# Altium footprint library Diodes.PcbLib: 9 footprints
Each footprint in its own frame and in the unit in brackets; x right, y up, seen from the top. Pads: shape width x height; smd on the part's side, far side on the other; paste and mask are expansions set on the pad; w line width, h text height; cw(c..) or ccw(c..) is an arc to the next point about the centre after c.
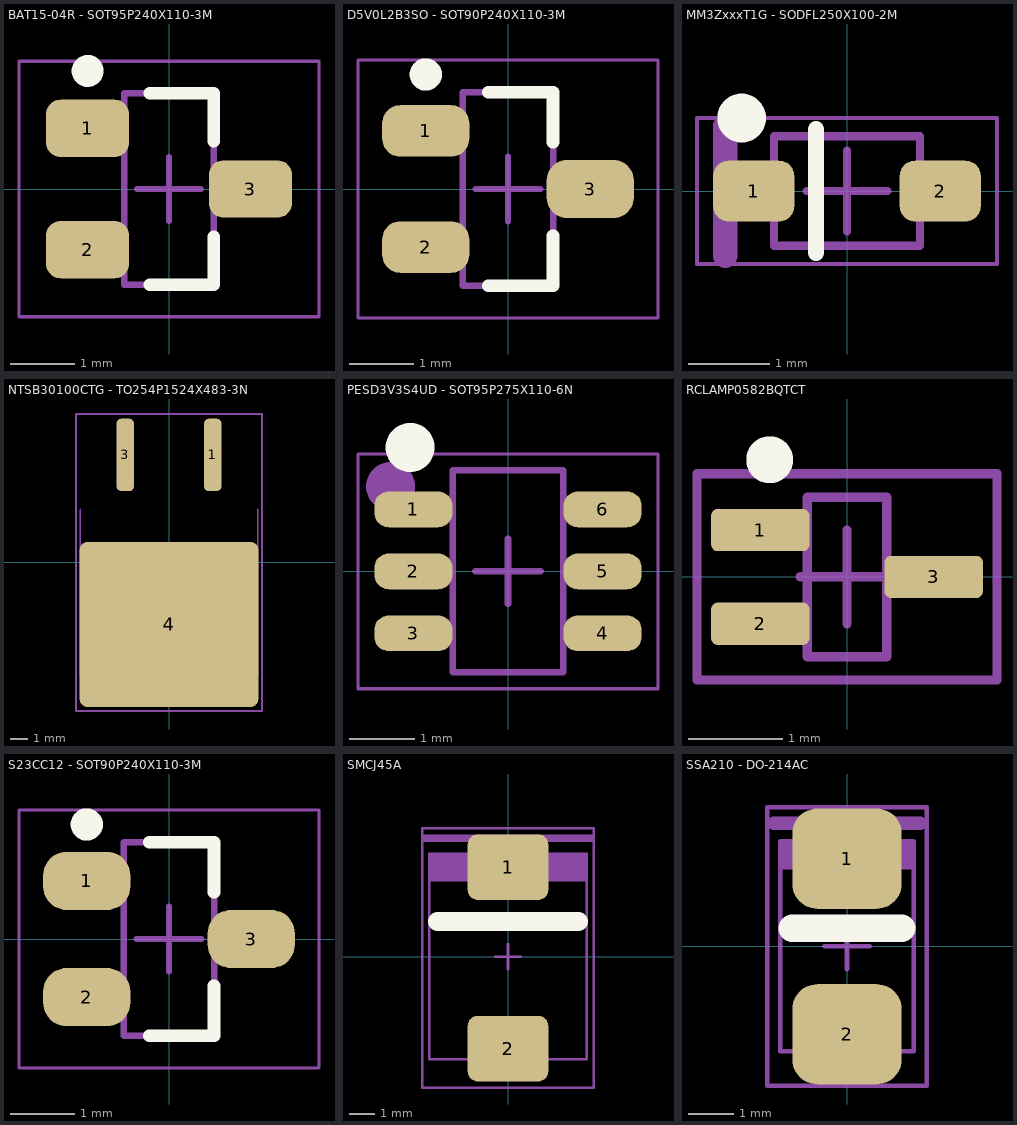
[diagram p0: the footprints below, top view; thin cyan lines are the x and y axes]

## BAT15-04R - SOT95P240X110-3M [mm] "SOT23, 3-Leads, Body 2.90x2.40mm, Pitch 0.95mm, IPC Low Density"
height 1.1
pads (3):
  rrect50% 1.3x0.9 smd paste-0.03: 1(-1.275,0.95) 2(-1.275,-0.95) 3(1.275,0)
Top Overlay:
  circle w0.25: c-1.275,1.85 r0.125
  lines w0.2: -0.3,-1.5 0.7,-1.5 0.7,-0.75 ; -0.3,1.5 0.7,1.5 0.7,0.75
Mechanical 13:
  lines w0.1: -0.7,-1.5 0.7,-1.5 0.7,1.5 -0.7,1.5 -0.7,-1.5
Mechanical 15:
  lines w0.05: -2.35,-2 2.35,-2 2.35,2 -2.35,2 -2.35,-2
  lines w0.1: -0.5,0 0.5,0 ; 0,-0.5 0,0.5
3D body: height 1.1, standoff 0.1, extent -0.7,-1.5 0.7,1.5

## D5V0L2B3SO - SOT90P240X110-3M [mm] "SOT23, 3-Leads, Body 2.90x2.40mm, Pitch 0.90mm, IPC Low Density"
height 1.1
pads (3):
  rrect70% 1.35x0.8 smd paste-0.05: 1(-1.275,0.9) 2(-1.275,-0.9)
  rrect70% 1.35x0.9 smd paste-0.05: 3(1.275,0)
Top Overlay:
  circle w0.25: c-1.275,1.775 r0.125
  lines w0.2: -0.3,-1.5 0.7,-1.5 0.7,-0.725 ; -0.3,1.5 0.7,1.5 0.7,0.725
Mechanical 13:
  lines w0.1: -0.7,-1.5 0.7,-1.5 0.7,1.5 -0.7,1.5 -0.7,-1.5
Mechanical 15:
  lines w0.05: -2.325,-2 2.325,-2 2.325,2 -2.325,2 -2.325,-2
  lines w0.1: -0.5,0 0.5,0 ; 0,-0.5 0,0.5
3D body: height 1.1, standoff 0.01, extent -0.7,-1.5 0.7,1.5

## MM3ZxxxT1G - SODFL250X100-2M [mm] "SODFL, 2-Leads, Body 1.25x2.50mm, IPC Low Density"
height 1
pads (2):
  rrect50% 1x0.75 smd paste-0.025: 1(-1.15,0) 2(1.15,0)
Top Overlay:
  circle w0.5: c-1.3,0.9 r0.05
  lines w0.2: -0.381,-0.762 -0.381,0.762
Mechanical 13:
  lines w0.1: -0.9,-0.675 0.9,-0.675 0.9,0.675 -0.9,0.675 -0.9,-0.675
Mechanical 15:
  lines w0.05: -1.85,-0.9 1.85,-0.9 1.85,0.9 -1.85,0.9 -1.85,-0.9
  lines w0.1: -0.5,0 0.5,0 ; 0,-0.5 0,0.5
Assembly:
  lines w0.05: -1.85,-0.9 -1.85,0.9 1.85,0.9 1.85,-0.9 -1.85,-0.9
  lines w0.3: -1.5,-0.8 -1.5,0.8
  text ".Designator" at -1.3,-0.2 h0.9
3D body: height 1, standoff 0, extent -0.9,-0.675 0.9,0.675

## NTSB30100CTG - TO254P1524X483-3N [mm] "D2-PAK, 3-Pads, Body 9.6x10.3mm (max), IPC Medium Density"
height 4.83
pads (3):
  rrect50% 1x4.2 smd paste-0.03: 1(2.54,6.25) 3(-2.54,6.25)
  rrect10% 10.4x9.6 smd paste-99: 4(0,-3.6)
Top Paste:
  region: 1.65,-6.85 1.65,-8.05 2.85,-8.05 2.85,-6.85
  region: 0.15,-6.85 0.15,-8.05 1.35,-8.05 1.35,-6.85
  region: -1.35,-6.85 -1.35,-8.05 -0.15,-8.05 -0.15,-6.85
  region: -2.85,-6.85 -2.85,-8.05 -1.65,-8.05 -1.65,-6.85
  region: 1.65,-3.85 1.65,-5.05 2.85,-5.05 2.85,-3.85
  region: -2.85,-3.85 -2.85,-5.05 -1.65,-5.05 -1.65,-3.85
  region: 1.65,-0.85 1.65,-2.05 2.85,-2.05 2.85,-0.85
  region: -2.85,-0.85 -2.85,-2.05 -1.65,-2.05 -1.65,-0.85
  region: -1.35,-0.85 -1.35,-2.05 -0.15,-2.05 -0.15,-0.85
  region: 0.15,-0.85 0.15,-2.05 1.35,-2.05 1.35,-0.85
  region: 3.15,0.65 3.15,-0.55 4.35,-0.55 4.35,0.65
  region: 3.15,-0.85 3.15,-2.05 4.35,-2.05 4.35,-0.85
  region: 3.15,-2.35 3.15,-3.55 4.35,-3.55 4.35,-2.35
  region: 3.15,-3.85 3.15,-5.05 4.35,-5.05 4.35,-3.85
  region: 3.15,-5.35 3.15,-6.55 4.35,-6.55 4.35,-5.35
  region: 0.15,0.65 0.15,-0.55 1.35,-0.55 1.35,0.65
  region: 0.15,-2.35 0.15,-3.55 1.35,-3.55 1.35,-2.35
  region: 0.15,-3.85 0.15,-5.05 1.35,-5.05 1.35,-3.85
  region: 0.15,-5.35 0.15,-6.55 1.35,-6.55 1.35,-5.35
  region: 1.65,0.65 1.65,-0.55 2.85,-0.55 2.85,0.65
  region: 1.65,-2.35 1.65,-3.55 2.85,-3.55 2.85,-2.35
  region: 1.65,-5.35 1.65,-6.55 2.85,-6.55 2.85,-5.35
  region: -2.85,0.65 -2.85,-0.55 -1.65,-0.55 -1.65,0.65
  region: -2.85,-2.35 -2.85,-3.55 -1.65,-3.55 -1.65,-2.35
  region: -2.85,-5.35 -2.85,-6.55 -1.65,-6.55 -1.65,-5.35
  region: -1.35,0.65 -1.35,-0.55 -0.15,-0.55 -0.15,0.65
  region: -1.35,-2.35 -1.35,-3.55 -0.15,-3.55 -0.15,-2.35
  region: -1.35,-3.85 -1.35,-5.05 -0.15,-5.05 -0.15,-3.85
  region: -1.35,-5.35 -1.35,-6.55 -0.15,-6.55 -0.15,-5.35
  region: -4.35,-5.35 -4.35,-6.55 -3.15,-6.55 -3.15,-5.35
  region: -4.35,-3.85 -4.35,-5.05 -3.15,-5.05 -3.15,-3.85
  region: -4.35,-2.35 -4.35,-3.55 -3.15,-3.55 -3.15,-2.35
  region: -4.35,-0.85 -4.35,-2.05 -3.15,-2.05 -3.15,-0.85
  region: -4.35,0.65 -4.35,-0.55 -3.15,-0.55 -3.15,0.65
Mechanical 13:
  lines w0.1: -5.15,3.1 -5.15,-6.55 5.15,-6.55 5.15,3.1
Mechanical 15:
  lines w0.1: 0.1,-0.325 0.1,0.675 ; -5.4,-8.625 -5.4,8.625 5.4,8.625 5.4,-8.625 -5.4,-8.625
Assembly:
  lines w0.1: -5.4,-8.625 5.4,-8.625 5.4,8.625 -5.4,8.625 -5.4,-8.625
  text ".Designator" at -3,-4 h1.5
3D body: height 4.83, standoff 0, extent -5.15,-6.55 5.15,3.1

## PESD3V3S4UD - SOT95P275X110-6N [mm] "SOT23, 6-Leads, Body 2.90x2.75mm, Pitch 0.95mm, IPC Medium Density"
height 1.1
pads (6):
  rrect80% 1.2x0.55 smd paste-0.03 mask+0.085: 1(-1.45,0.95) 2(-1.45,0) 3(-1.45,-0.95) 4(1.45,-0.95) 5(1.45,0) 6(1.45,0.95)
Top Overlay:
  circle w0.5: c-1.5,1.9 r0.125
Mechanical 13:
  lines w0.1: -0.85,-1.55 0.85,-1.55 0.85,1.55 -0.85,1.55 -0.85,-1.55
Mechanical 15:
  lines w0.05: -2.3,-1.8 2.3,-1.8 2.3,1.8 -2.3,1.8 -2.3,-1.8
  lines w0.1: -0.5,0 0.5,0 ; 0,-0.5 0,0.5
Assembly:
  circle w0.5: c-1.8,1.3 r0.125
  lines w0.05: -2.3,-1.8 -2.3,1.8 2.3,1.8 2.3,-1.8 -2.3,-1.8
  text ".Designator" at -1.9,-0.2 h0.9
3D body: height 1.1, standoff 0.05, extent -0.85,-1.55 0.85,1.55

## RCLAMP0582BQTCT [mm] "SOT23, 3-Leads, Body 1.7x1.8mm (max), Pitch 0.50mm, IPC Medium Density"
height 0.9
pads (3):
  rrect30% 1.05x0.45 smd paste-0.026: 1(-0.925,0.5) 2(-0.925,-0.5) 3(0.925,0)
Top Overlay:
  circle w0.25: c-0.825,1.25 r0.125
Mechanical 13:
  lines w0.1: -0.425,-0.85 -0.425,0.85 0.425,0.85 0.425,-0.85 -0.425,-0.85
Mechanical 15:
  lines w0.1: -0.5,0 0.5,0 ; 0,-0.5 0,0.5 ; -1.6,-1.1 -1.6,1.1 1.6,1.1 1.6,-1.1 -1.6,-1.1
Assembly:
  lines w0.1: -1.6,-1.1 1.6,-1.1 1.6,1.1 -1.6,1.1 -1.6,-1.1
  text ".Designator" at -1.4,-0.2 h0.9
3D body: height 0.9, standoff 0, extent -0.425,-0.85 0.425,0.85

## S23CC12 - SOT90P240X110-3M [mm] "SOT23, 3-Leads, Body 2.90x2.40mm, Pitch 0.90mm, IPC Low Density"
height 1.1
pads (3):
  rrect80% 1.35x0.9 smd paste-0.05: 1(-1.275,0.9) 2(-1.275,-0.9) 3(1.275,0)
Top Overlay:
  circle w0.25: c-1.275,1.775 r0.125
  lines w0.2: -0.3,-1.5 0.7,-1.5 0.7,-0.725 ; -0.3,1.5 0.7,1.5 0.7,0.725
Mechanical 13:
  lines w0.1: -0.7,-1.5 0.7,-1.5 0.7,1.5 -0.7,1.5 -0.7,-1.5
Mechanical 15:
  lines w0.05: -2.325,-2 2.325,-2 2.325,2 -2.325,2 -2.325,-2
  lines w0.1: -0.5,0 0.5,0 ; 0,-0.5 0,0.5
3D body: height 1.1, standoff 0.01, extent -0.7,-1.5 0.7,1.5

## SMCJ45A [mm] "Molded Diode, 2-Leads, Body 7.9x5.9mm, IPC Medium Density"
height 2.65
pads (2):
  rrect30% 3.2x2.6 smd paste-99: 1(0,3.55) 2(0,-3.65)
Top Overlay:
  lines w0.75: -2.8,1.4 2.8,1.4
Top Paste:
  region: 1.575,-2.75 1.575,-4.575 1.45,-4.8 1.225,-4.925 -1.225,-4.925 -1.45,-4.8 -1.575,-4.575 -1.575,-2.75 -1.25,-2.425 0,-3.225 1.25,-2.425
  region: -1.575,2.65 -1.575,4.475 -1.45,4.7 -1.225,4.825 1.225,4.825 1.45,4.7 1.575,4.475 1.575,2.65 1.25,2.325 0,3.125 -1.25,2.325
Mechanical 13:
  region: -3.125,4.075 -3.125,2.979 3.125,2.979 3.125,4.075
  lines w0.1: -3.125,-4.075 -3.125,4.075 3.125,4.075 3.125,-4.075 -3.125,-4.075
Mechanical 15:
  lines w0.1: -0.5,0 0.5,0 ; 0,-0.5 0,0.5 ; -3.4,-5.2 -3.4,5.1 3.4,5.1 3.4,-5.2 -3.4,-5.2
Assembly:
  lines w0.1: -3.4,-5.2 3.4,-5.2 3.4,5.1 -3.4,5.1 -3.4,-5.2
  lines w0.3: -3.3,4.7 3.3,4.7
  text ".Designator" at 0.5,-4.8 h2.5
3D body: height 2.65, standoff 0, extent -3.125,-4.075 3.125,4.075

## SSA210 - DO-214AC [mm] "Molded Diode, 2-Leads, Body 4.3x2.6mm, IPC LOW Density"
height 2.44
pads (2):
  rrect50% 2.4x2.2 smd paste-0.1: 1(0,1.925) 2(0,-1.925)
Top Overlay:
  lines w0.6: -1.2,0.4 1.2,0.4
Mechanical 13:
  region: -1.46,2.3 -1.46,1.681 1.46,1.681 1.46,2.3
  lines w0.1: -1.46,-2.3 -1.46,2.3 1.46,2.3 1.46,-2.3 -1.46,-2.3
Mechanical 15:
  lines w0.1: -0.5,0 0.5,0 ; 0,-0.5 0,0.5 ; -1.75,-3.05 -1.75,3.05 1.75,3.05 1.75,-3.05 -1.75,-3.05
Assembly:
  lines w0.1: -1.75,-3.05 1.75,-3.05 1.75,3.05 -1.75,3.05 -1.75,-3.05
  lines w0.3: -1.6,2.7 1.6,2.7
  text ".Designator" at 0.3,-2.9 h1.5
3D body: height 2.44, standoff 0, extent -1.46,-2.3 1.46,2.3